# Altium integrated library ABM8-16.000MHZ-10-1-U-T.IntLib: 1 symbol
Pins are listed as number, name and electrical type; pins without a type are passive.

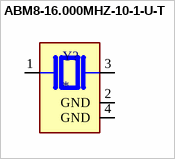
[diagram p0: symbol ABM8-16.000MHZ-10-1-U-T]

## ABM8-16.000MHZ-10-1-U-T
designator Y?
16 MHz Â±10ppm Crystal 10pF 70 Ohms 4-SMD, No Lead; MF: Abracon; MP: ABM8-16.000MHZ-10-1-U-T; SnapEDA_Link: https://www.snapeda.com/parts/ABM8-16.000MHZ-10-1-U-T/Abracon/view-part/?ref=snap; Package: NON-STANDARD-4 ABRACON; Value: *; Check_prices: https://www.snapeda.com/parts/ABM8-16.000MHZ-10-1-U-T/Abracon/view-part/?ref=eda
footprint XTAL_ABM8-16.000MHZ-10-1-U-T
pins: 1, 2 GND (power), 3 2, 4 GND (power)